# Altium schematic symbol library 1786918.SchLib: 1 symbol
Pins are listed as number, name and electrical type; pins without a type are passive.

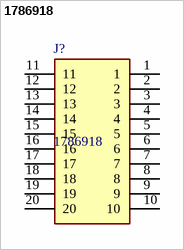
[diagram p0: symbol 1786918]

## 1786918
designator J?
DMC 1,5/10-G1-3,5 P20THR - PCB headers, nominal cross section: 1.5 mm<sup>2</sup>, color: black, nominal current: 8 A, rated voltage (III/2): 160 V, contact surface: Sn, contact connection type: Pin, number of potentials: 20, number of rows: 2, number of positions: 10, number of connections: 20, product range: DMC 1,5/..-G1-THR, pitch: 3.5 mm, mounting: THR soldering / wave soldering, pin layout: Linear pinning, solder pin [P]: 2 mm, number of solder pins per potential: 1, plug-in system: COMBICON DFMC 1,5,; Manufacturer_Name: Phoenix Contact; Geometry.Height: 10.95mm; Mouser Part Number: 651-1786918; Mouser Price/Stock: https://www.mouser.co.uk/ProductDetail/Phoenix-Contact/1786918?qs=c9g5C7Q1WQuZJ7mDX0TZ7A%3D%3D; Manufacturer_Part_Number: 1786918; Datasheet Link: https://www.phoenixcontact.com/en-us/products/pcb-header-dmc-1510-g1-35-p20thr-1786918?type=pdf
footprint 1786918
pins: 1, 2, 3, 4, 5, 6, 7, 8, 9, 10, 11, 12, 13, 14, 15, 16, 17, 18, 19, 20